# EAGLE library part DIL16/8 (library ic-package)
Dual In Line 8 pins used
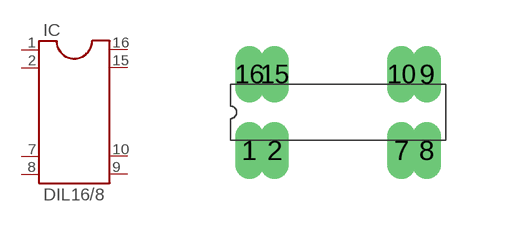
[diagram p6: symbol with the pads of DIL16/8; footprint DIL16/8]

Designator prefix IC

## DIL16/8  [DIL16/8]
1  1  pas
2  2  pas
7  7  pas
8  8  pas
9  9  pas
10  10  pas
15  15  pas
16  16  pas

## Footprint DIL16/8 (pad centres in mm)
Dual In Line Package 8 pins used
drill 0.203 long: 1 -2.223,-0.953; 2 -1.587,-0.953; 7 1.587,-0.953; 8 2.223,-0.953; 9 2.223,0.953; 10 1.587,0.953; 15 -1.587,0.953; 16 -2.223,0.953